# Altium schematic symbol library TIDA-01485.SCHLIB: 55 symbols (part 2 of 2)
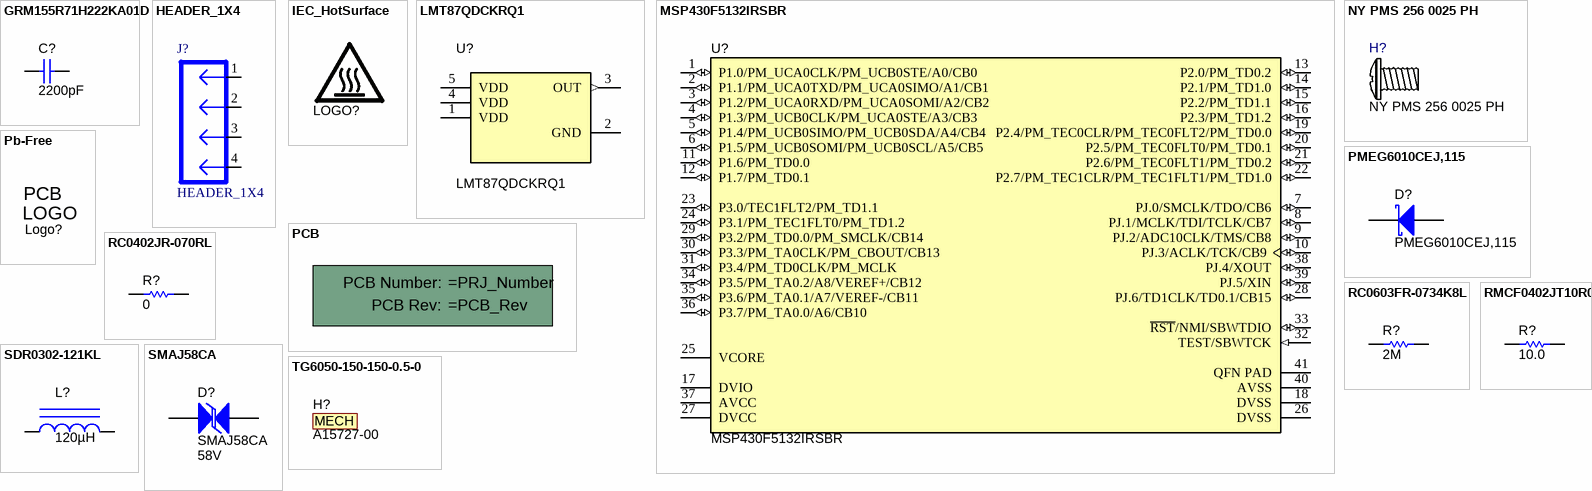
[diagram p2: symbols GRM155R71H222KA01D to TG6050-150-150-0.5-0]

## SDR0302-121KL
designator L?  ValueDisplayed: 120µH  (hidden comment: SDR0302-121KL)
Inductor, Drum Core, Ferrite, 120uH, 0.22A, 3.2 ohm, SMD; Manufacturer: Bourns; Ind_H: 120.0E-6; Imax_A: 0.22; Irms: 0.22A @ 40C rise; Isat: 0.29A @ 10% inductance drop; DCR_ohm: 3.2; Value1: 3.2 ohm; SymbolVersion: 2008-07-23; CompType: Inductor; Value: 120uH; PartNumber: SDR0302-121KL; Value2: 0.22A; Technology: Drum Core; MountType: SMT; Material: Ferrite; PackageReference: 3x2.5x2.8mm; Published: 2008-06-26; Publisher: Texas Instruments; LatestRevisionDate: 2014-06-23; ComponentLink1Description: Datasheet link; ComponentLink1URL: http://www.bourns.com/data/global/pdfs/SDR0302.pdf; RoHS: Y; Supplier 1: Digi-Key; Supplier Part Number 1: SDR0302-121KLCT-ND; Supplier 2: Mouser; Supplier Part Number 2: 652-SDR0302-121KL
signal-integrity model Inductor
simulation model Inductor
footprint SDR0302
pins: 1, 2

## SMAJ58CA
designator D?  value 58V
Diode, TVS, Bi, 58 V, SMA; Manufacturer: Littelfuse; U/M: EA; Power_W: 3.3; Vr_V: 58; Value1: 3.3W; RJA_CperW: 120; SizeAreaWB_mm2: 37.3428; SizeArea_mm2: 16.3228; SizeX_mm: 5.59; SizeY_mm: 2.92; SizeZ_mm: 2.87; AEC Category: Q101; CompType: TVS; SymbolVersion: 2012-01-13; PartNumber: SMAJ58CA; PackageReference: SMA; Vz_V: N/A; MountType: SMT; RoHS: Y; ComponentLink1Description: Datasheet link; ComponentLink1URL: http://www.littelfuse.com/~/media/electronics/datasheets/tvs_diodes/littelfuse_tvs_diode_smaj_datasheet.pdf.pdf; Published: 2008-10-08; Publisher: Texas Instruments; LatestRevisionDate: 2016-08-19; LatestRevisionNote: Updated Supplier Data; Supplier 1: Digi-Key; Supplier Part Number 1: SMAJ58CALFDKR-ND; Supplier 2: Mouser; Supplier Part Number 2: 576-SMAJ58CA; Supplier 3: Farnell; Supplier Part Number 3: 1685149; AEC Qualified: ?
footprint SMA
pins: 1, 2

## TG6050-150-150-0.5-0
designator H?, comment A15727-00  (mechanical)
Thermal Conductive Pad; Manufacturer: Laird Technologies - Thermal Materials; SymbolCreator: codlsc; CompType: Hardware; SymbolVersion: 2010-02-24; PartNumber: A15727-00; RoHS: Y; PackageReference: TPCM 5810 27mmx27mm; MountType: N/A; ComponentLink1Description: Datasheet Link; ComponentLink1URL: Laird Technologies - Thermal Materials; Publisher: Texas Instruments; LatestRevisionDate: 2017-06-11; Supplier 1: Digi-Key; Supplier Part Number 1: 926-1556-ND
text: MECH